# Altium footprint library WR-HDMI.PcbLib: 5 footprints
Each footprint in its own frame and in the unit in brackets; x right, y up, seen from the top. Pads: shape width x height; smd on the part's side, far side on the other; paste and mask are expansions set on the pad; w line width, h text height; cw(c..) or ccw(c..) is an arc to the next point about the centre after c.
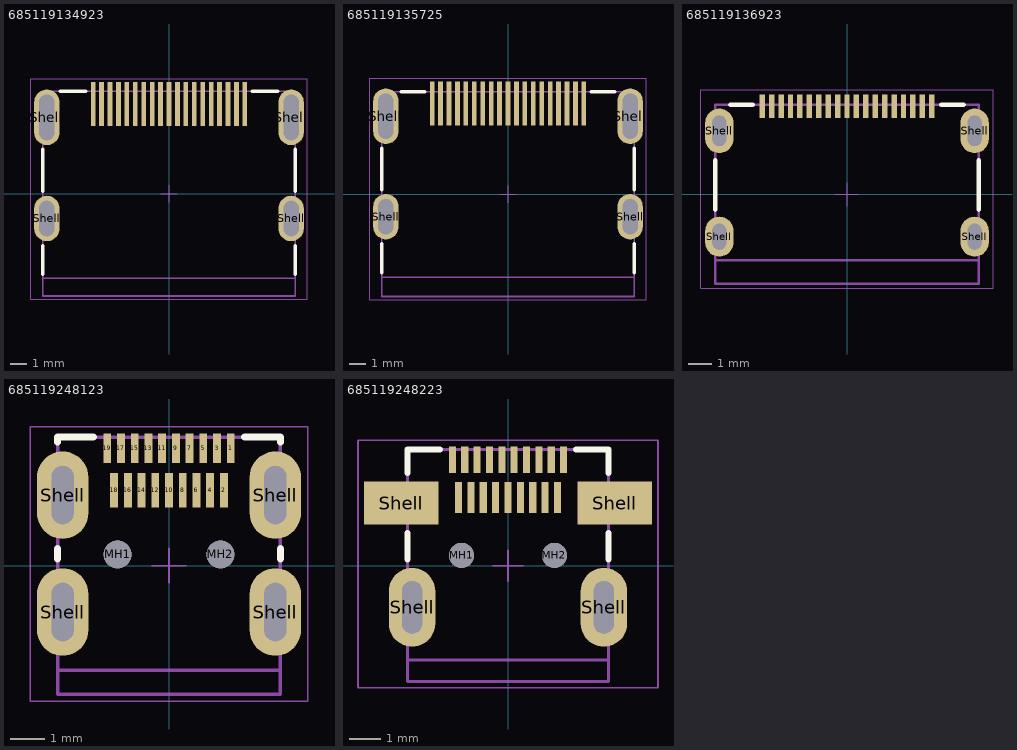
[diagram p0: the footprints below, top view; thin cyan lines are the x and y axes]

## 685119134923 [mm] "HDMI SMT Horizontal"
height 6.13
pads (23):
  rect 0.28x2.6 smd: 1(4.5,5.325) 2(4,5.325) 3(3.5,5.325) 4(3,5.325) 5(2.5,5.325) 6(2,5.325) 7(1.5,5.325) 8(1,5.325) 9(0.5,5.325) 10(0,5.325) 11(-0.5,5.325) 12(-1,5.325) 13(-1.5,5.325) 14(-2,5.325) 15(-2.5,5.325) 16(-3,5.325) 17(-3.5,5.325) 18(-4,5.325) 19(-4.5,5.325)
  oval 1.5x2.7 hole 0.9 slot 2.1 at 90 deg: Shell(-7.25,-1.475) Shell(7.25,-1.475)
  oval 1.5x3.3 hole 0.9 slot 2.7 at 90 deg: Shell(-7.25,4.525) Shell(7.25,4.525)
Top Overlay:
  lines w0.2: -7.5,-4.775 -7.5,-3.075 ; -7.5,0.125 -7.5,2.625 ; -6.45,6.075 -4.95,6.075 ; 4.95,6.075 6.45,6.075 ; 7.5,-4.775 7.5,-3.075 ; 7.5,0.125 7.5,2.625
Top Designator:
  text ".Designator" at -7.498,-0.5 h1.5
Top Notes (Mech5):
  lines w0.1: -7.5,-5.025 7.5,-5.025
  text "PCB Edge" at -1.989,-5.88 h0.61
Top Component Outline:
  lines w0.1: 7.5,6.075 7.5,-6.075 -7.5,-6.075 -7.5,6.075 7.5,6.075
Top Courtyard:
  lines w0.05: -8.2,-6.275 -8.2,6.825 8.2,6.825 8.2,-6.275 -8.2,-6.275
Top Component Center:
  lines w0.05: -0.5,0 0.5,0 ; 0,-0.5 0,0.5
3D body "685119134923.stp": height 6.17, standoff -2.2, extent -7.55,-6.075 7.45,6.075

## 685119135725 [mm] "HDMI SMT Horizontal with M3 screw"
height 16.05
pads (23):
  rect 0.28x2.6 smd: 1(4.5,5.385) 2(4,5.385) 3(3.5,5.385) 4(3,5.385) 5(2.5,5.385) 6(2,5.385) 7(1.5,5.385) 8(1,5.385) 9(0.5,5.385) 10(0,5.385) 11(-0.5,5.385) 12(-1,5.385) 13(-1.5,5.385) 14(-2,5.385) 15(-2.5,5.385) 16(-3,5.385) 17(-3.5,5.385) 18(-4,5.385) 19(-4.5,5.385)
  oval 1.5x2.7 hole 0.9 slot 2.1 at 90 deg: Shell(-7.25,-1.335) Shell(7.25,-1.335)
  oval 1.5x3.3 hole 0.9 slot 2.7 at 90 deg: Shell(-7.25,4.625) Shell(7.25,4.625)
Top Overlay:
  lines w0.2: -7.5,-4.675 -7.5,-2.925 ; -7.5,0.255 -7.5,2.725 ; -6.35,6.075 -4.95,6.075 ; 4.95,6.075 6.35,6.075 ; 7.5,-4.675 7.5,-2.925 ; 7.5,0.255 7.5,2.725
Top Designator:
  text ".Designator" at -7.498,-0.5 h1.5
Top Notes (Mech5):
  lines w0.1: -7.5,-4.925 7.5,-4.925
  text "PCB Edge" at -2.047,-5.827 h0.61
Top Component Outline:
  lines w0.1: -7.5,-6.075 7.5,-6.075 7.5,6.075 -7.5,6.075 -7.5,-6.075
Top Courtyard:
  lines w0.05: -8.2,-6.275 8.2,-6.275 8.2,6.885 -8.2,6.885 -8.2,-6.275
Top Component Center:
  lines w0.05: -0.5,0 0.5,0 ; 0,-0.5 0,0.5
3D body "685119135725.stp": height 16.09, standoff -2.16, extent -7.5,-6.075 7.5,6.075

## 685119136923 [mm] "Mini HDMI SMT Horizontal"
height 3.3
pads (23):
  rect 0.23x1 smd: 1(3.6,3.75) 2(3.2,3.75) 3(2.8,3.75) 4(2.4,3.75) 5(2,3.75) 6(1.6,3.75) 7(1.2,3.75) 8(0.8,3.75) 9(0.4,3.75) 10(0,3.75) 11(-0.4,3.75) 12(-0.8,3.75) 13(-1.2,3.75) 14(-1.6,3.75) 15(-2,3.75) 16(-2.4,3.75) 17(-2.8,3.75) 18(-3.2,3.75) 19(-3.6,3.75)
  oval 1.2x1.7 hole 0.6 slot 1.1 at 90 deg: Shell(-5.425,-1.8) Shell(5.425,-1.8)
  oval 1.2x1.9 hole 0.6 slot 1.3 at 90 deg: Shell(-5.425,2.7) Shell(5.425,2.7)
Top Overlay:
  lines w0.2: -5.6,-0.65 -5.6,1.45 ; -4.95,3.8 -4,3.8 ; 4,3.8 4.95,3.8 ; 5.6,-0.65 5.6,1.45
Top Designator:
  text ".Designator" at -7.498,-0.5 h1.5
Top Notes (Mech5):
  lines w0.1: -5.6,-2.8 5.6,-2.8
  text "PCB Edge" at -1.831,-3.706 h0.61
Top Component Outline:
  lines w0.1: -5.6,-3.8 -5.6,3.8 5.6,3.8 5.6,-3.8 -5.6,-3.8
Top Courtyard:
  lines w0.05: -6.225,-4 -6.225,4.45 6.225,4.45 6.225,-4 -6.225,-4
Top Component Center:
  lines w0.05: -0.5,0 0.5,0 ; 0,-0.5 0,0.5
3D body "685119136923.stp": height 3.3, standoff -2.15, extent -5.625,-3.8 5.625,4.102

## 685119248123 [mm] "Micro HDMI Horizontal SMT"
height 3
pads (25):
  rect 0.23x0.85 smd: 1(1.8,3.425) 3(1.4,3.425) 5(1,3.425) 7(0.6,3.425) 9(0.2,3.425) 11(-0.2,3.425) 13(-0.6,3.425) 15(-1,3.425) 17(-1.4,3.425) 19(-1.8,3.425)
  rect 0.23x1 smd: 2(1.6,2.2) 4(1.2,2.2) 6(0.8,2.2) 8(0.4,2.2) 10(0,2.2) 12(-0.4,2.2) 14(-0.8,2.2) 16(-1.2,2.2) 18(-1.6,2.2)
  round 0.81 hole 0.81 unplated: MH1(-1.5,0.33) MH2(1.5,0.33)
  oval 1.5x2.55 hole 0.65 slot 1.7 at 90 deg: Shell(-3.1,-1.35) Shell(-3.1,2.06) Shell(3.1,-1.35) Shell(3.1,2.06)
Top Overlay:
  lines w0.2: -3.25,0.2 -3.25,0.5 ; -3.25,3.6 -3.25,3.75 -2.2,3.75 ; 2.2,3.75 3.25,3.75 3.25,3.6 ; 3.25,0.2 3.25,0.5
Top Designator:
  text ".Designator" at -7.498,-0.5 h1.5
Top Notes (Mech5):
  lines w0.1: -3.25,-3.05 3.25,-3.05
  text "PCB Edge" at -1.219,-3.683 h0.41
Top Component Outline:
  lines w0.1: -3.25,-3.75 -3.25,3.75 3.25,3.75 3.25,-3.75 -3.25,-3.75
Top Courtyard:
  lines w0.05: -4.05,-3.95 -4.05,4.05 4.05,4.05 4.05,-3.95 -4.05,-3.95
Top Component Center:
  lines w0.05: -0.5,0 0.5,0 ; 0,-0.5 0,0.5
3D body "685119248123.stp": height 2.99, standoff -1.11, extent -3.25,-3.75 3.25,3.755

## 685119248223 [mm] "Micro HDMI Horizontal SMT Hybrid Mount"
height 3
pads (25):
  rect 0.23x0.85 smd: 1(1.8,3.425) 3(1.4,3.425) 5(1,3.425) 7(0.6,3.425) 9(0.2,3.425) 11(-0.2,3.425) 13(-0.6,3.425) 15(-1,3.425) 17(-1.4,3.425) 19(-1.8,3.425)
  rect 0.23x1 smd: 2(1.6,2.2) 4(1.2,2.2) 6(0.8,2.2) 8(0.4,2.2) 10(0,2.2) 12(-0.4,2.2) 14(-0.8,2.2) 16(-1.2,2.2) 18(-1.6,2.2)
  round 0.81 hole 0.81 unplated: MH1(-1.5,0.33) MH2(1.5,0.33)
  rect 2.4x1.38 smd: Shell(-3.45,2.02) Shell(3.45,2.02)
  oval 1.5x2.55 hole 0.65 slot 1.7 at 90 deg: Shell(-3.1,-1.35) Shell(3.1,-1.35)
Top Overlay:
  lines w0.2: -3.25,0.2 -3.25,1.05 ; -3.25,3 -3.25,3.75 -2.2,3.75 ; 2.2,3.75 3.25,3.75 3.25,3 ; 3.25,0.2 3.25,1.05
Top Designator:
  text ".Designator" at -7.498,-0.5 h1.5
Top Notes (Mech5):
  lines w0.1: -3.25,-3.05 3.25,-3.05
  text "PCB Edge" at -1.311,-3.711 h0.41
Top Component Outline:
  lines w0.1: -3.25,-3.75 -3.25,3.75 3.25,3.75 3.25,-3.75 -3.25,-3.75
Top Courtyard:
  lines w0.05: -4.85,-3.95 -4.85,4.05 4.85,4.05 4.85,-3.95 -4.85,-3.95
Top Component Center:
  lines w0.05: -0.5,0 0.5,0 ; 0,-0.5 0,0.5
3D body "685119248223 (rev1).stp": height 2.99, standoff -1.11, extent -4.509,-3.75 4.509,3.755